# EAGLE library part MCP3201 (library Mine)
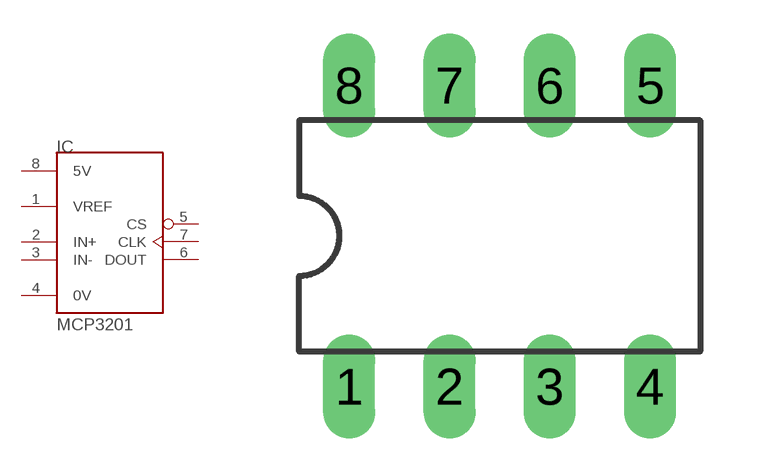
[diagram p3: symbol with the pads of DIL08; footprint DIL08]

Designator prefix IC

## MCP3201  [DIL08]
1  VREF  in
2  IN+  in
3  IN-  in
4  0V  pwr
5  CS  out
6  DOUT  out
7  CLK  out
8  5V  pwr

## Footprint DIL08 (pad centres in mm)
Dual In Line Package
drill 0.813 long: 1 -3.81,-3.81; 2 -1.27,-3.81; 3 1.27,-3.81; 4 3.81,-3.81; 5 3.81,3.81; 6 1.27,3.81; 7 -1.27,3.81; 8 -3.81,3.81